# Altium schematic symbol library MOD-HM-10.SchLib: 1 symbol
Pins are listed as number, name and electrical type; pins without a type are passive.

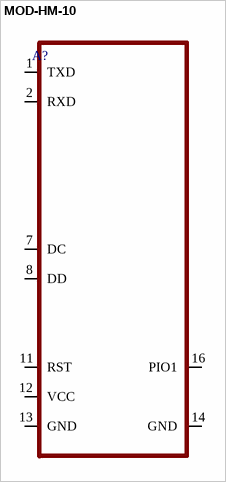
[diagram p0: symbol MOD-HM-10]

## MOD-HM-10
designator A?
pins: 1 TXD, 2 RXD, 7 DC, 8 DD, 11 RST, 12 VCC, 13 GND, 14 GND, 16 PIO1